# EAGLE library part INA326 (library burr-brown)
INA326 Precision, Rail-to-Rail I/O, Instrumentation Amplifier
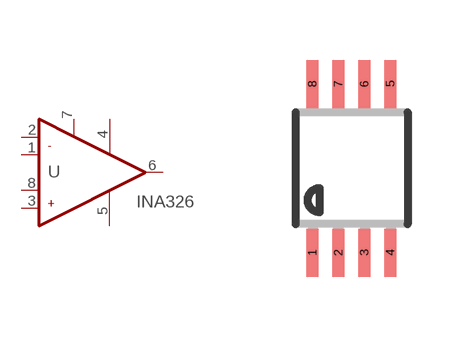
[diagram p176: symbol with the pads of MSOP08; footprint MSOP08]

Designator prefix U

## INA326  [MSOP08]
1  R1-1  pas
2  -IN  in
3  +IN  in
4  V-  pas
5  R2  pas
6  OUTPUT  out
7  V+  pas
8  R1-8  pas

## Footprint MSOP08 (pad centres in mm)
Mini Small Outline Package
smd 0.3 x 1.2: 1 -0.976,-2.113; 2 -0.326,-2.113; 3 0.324,-2.113; 4 0.974,-2.113; 5 0.974,2.112; 6 0.324,2.112; 7 -0.326,2.112; 8 -0.976,2.112